# Altium schematic symbol library LAN.SchLib: 5 symbols
Pins are listed as number, name and electrical type; pins without a type are passive.

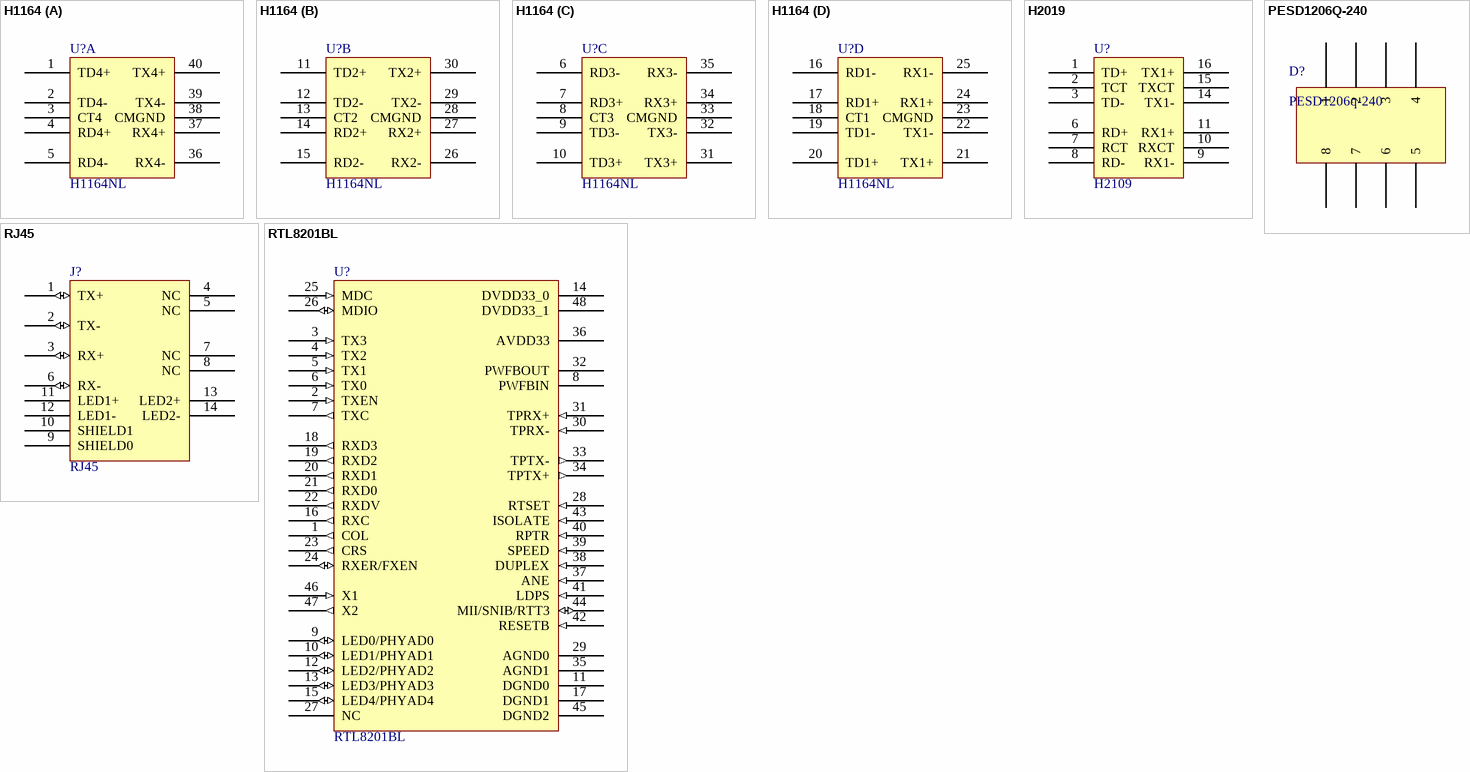
[diagram p0: symbols H1164 to RTL8201BL]

## H1164
designator U?, comment H1164NL
10/100M Magnetic Module 4 in 1
footprint H1164
part A pins: 1 TD4+, 2 TD4-, 3 CT4, 4 RD4+, 5 RD4-, 36 RX4-, 37 RX4+, 38 CMGND (power), 39 TX4-, 40 TX4+
part B pins: 11 TD2+, 12 TD2-, 13 CT2, 14 RD2+, 15 RD2-, 26 RX2-, 27 RX2+, 28 CMGND (power), 29 TX2-, 30 TX2+
part C pins: 6 RD3-, 7 RD3+, 8 CT3, 9 TD3-, 10 TD3+, 31 TX3+, 32 TX3-, 33 CMGND (power), 34 RX3+, 35 RX3-
part D pins: 16 RD1-, 17 RD1+, 18 CT1, 19 TD1-, 20 TD1+, 21 TX1+, 22 TX1-, 23 CMGND (power), 24 RX1+, 25 RX1-

## H2019
designator U?, comment H2109
footprint H2109
pins: 1 TD+ (power), 2 TCT (power), 3 TD- (power), 6 RD+ (power), 7 RCT (power), 8 RD- (power), 9 RX1- (power), 10 RXCT (power), 11 RX1+ (power), 14 TX1- (power), 15 TXCT (power), 16 TX1+ (power)

## PESD1206Q-240
designator D?, comment PESD1206q-240
USB ESD
footprint PESD1206
pins: 1, 2, 3, 4, 5, 6, 7, 8

## RJ45
designator J?
NO MAGNATIC MODEL
footprint RJ45/LED (RJ45 WITH LEDS)
pins: 1 TX+ (io), 2 TX- (io), 3 RX+ (io), 4 NC (power), 5 NC (power), 6 RX- (io), 7 NC (power), 8 NC (power), 9 SHIELD0 (power), 10 SHIELD1 (power), 11 LED1+ (power), 12 LED1- (power), 13 LED2+ (power), 14 LED2- (power)

## RTL8201BL
designator U?
footprint F-QFP7x7-G48/X.3N (QFP; 48 Leads; Body 7 x 7 mm; Pitch 0.5 mm)
pins: 1 COL (out), 2 TXEN (in), 3 TX3 (in), 4 TX2 (in), 5 TX1 (in), 6 TX0 (in), 7 TXC (out), 8 PWFBIN (power), 9 LED0/PHYAD0 (io), 10 LED1/PHYAD1 (io), 11 DGND0 (power), 12 LED2/PHYAD2 (io), 13 LED3/PHYAD3 (io), 14 DVDD33_0 (power), 15 LED4/PHYAD4 (io), 16 RXC (out), 17 DGND1 (power), 18 RXD3 (out), 19 RXD2 (out), 20 RXD1 (out), 21 RXD0 (out), 22 RXDV (out), 23 CRS (out), 24 RXER/FXEN (io), 25 MDC (in), 26 MDIO (io), 27 NC (hiz), 28 RTSET (in), 29 AGND0 (power), 30 TPRX- (in), 31 TPRX+ (in), 32 PWFBOUT (power), 33 TPTX- (out), 34 TPTX+ (out), 35 AGND1 (power), 36 AVDD33 (power), 37 ANE (in), 38 DUPLEX (in), 39 SPEED (in), 40 RPTR (in), 41 LDPS (in), 42 RESETB (in), 43 ISOLATE (in), 44 MII/SNIB/RTT3 (io), 45 DGND2 (power), 46 X1 (in), 47 X2 (out), 48 DVDD33_1 (power)